# EAGLE library part REF_2V5_MCP1501T-25E_SN (library GTOR - Active Components)
Voltage References High Prec Buffered Voltage Reference Source: Datasheet <http://ww1.microchip.com/downloads/en/DeviceDoc/20005474E.pdf>
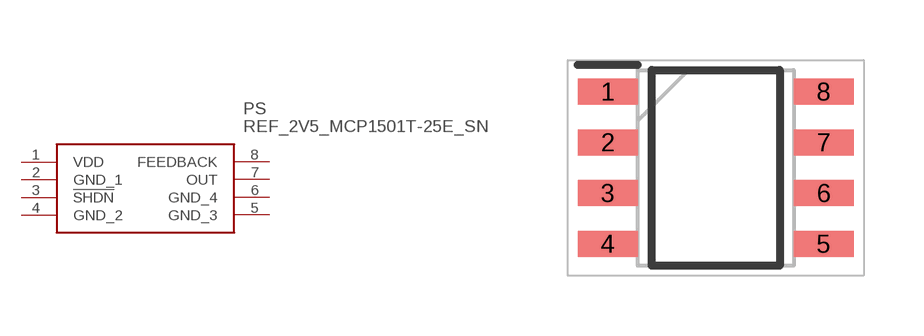
[diagram p10: symbol with the pads of SOIC127P600X175-8N; footprint SOIC127P600X175-8N]

Designator prefix PS

## REF_2V5_MCP1501T-25E_SN (ARROW_PART_NUMBER: MCP1501T-25E/SN; ARROW_PRICE-STOCK: https://www.arrow.com/en/products/mcp1501t-25esn/microchip-technology; DESCRIPTION: Voltage References High Prec Buffered Voltage Reference; HEIGHT: 1.75mm; MANUFACTURER_NAME: Microchip; MANUFACTURER_PART_NUMBER: MCP1501T-25E/SN; MOUSER_PART_NUMBER: 579-MCP1501T-25E/SN; MOUSER_PRICE-STOCK: https://www.mouser.co.uk/ProductDetail/Microchip-Technology/MCP1501T-25E-SN?qs=BA62vJVifGq6P0twjIFVRA%3D%3D)  [SOIC127P600X175-8N]
1  VDD
2  GND_1
3  !SHDN
4  GND_2
5  GND_3
6  GND_4
7  OUT
8  FEEDBACK

## Footprint SOIC127P600X175-8N (pad centres in mm)
soic8-
smd 1.5 x 0.65: 1 -2.7,1.905; 2 -2.7,0.635; 3 -2.7,-0.635; 4 -2.7,-1.905; 5 2.7,-1.905; 6 2.7,-0.635; 7 2.7,0.635; 8 2.7,1.905